# Altium footprint library PCBComponents.PcbLib: 3 footprints
Each footprint in its own frame and in the unit in brackets; x right, y up, seen from the top. Pads: shape width x height; smd on the part's side, far side on the other; paste and mask are expansions set on the pad; w line width, h text height; cw(c..) or ccw(c..) is an arc to the next point about the centre after c.
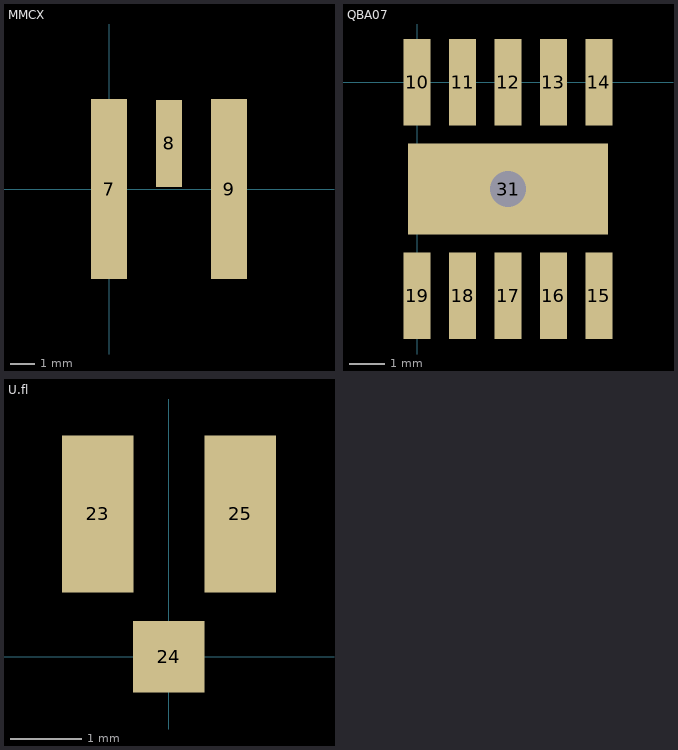
[diagram p0: the footprints below, top view; thin cyan lines are the x and y axes]

## MMCX [mm]
pads (3):
  rect 1.5x7.5 smd: 7(0,0) 9(5,0)
  rect 1.1x3.624 smd: 8(2.5,1.905)
3D body "User Library-johnson component_133-3711-801.step": height 2.49, standoff -2.51, extent -0.862,0.191 5.842,9.715

## QBA07 [mm]
pads (11):
  rect 0.76x2.41 smd: 10(0,0) 11(1.27,0) 12(2.54,0) 13(3.81,0) 14(5.08,0) 15(5.08,-5.969) 16(3.81,-5.969) 17(2.54,-5.969) 18(1.27,-5.969) 19(0,-5.969)
  rect 5.588x2.54 hole 1: 31(2.54,-2.984)
3D body "qba.STEP": height 1.5, standoff -0.28, extent -1.27,-6.984 6.35,1.146

## U.fl [mm]
pads (3):
  rect 1x2.2 smd: 23(-0.999,2) 25(1,2)
  rect 1x1 smd: 24(0,0)
3D body "User Library-U_FL-R-SMT(10).step": height 1.25, standoff 0, extent -1.5,0.101 1.5,3.201